# Altium schematic symbol library ZN28120BA1.SchLib: 1 symbol
Pins are listed as number, name and electrical type; pins without a type are passive.

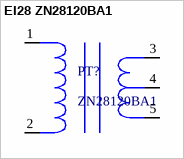
[diagram p0: symbol EI28 ZN28120BA1]

## EI28 ZN28120BA1
designator PT?, comment ZN28120BA1
220VAC / 12VAC EI28 ZN28120BA1
footprint ZN28120BA1
pins: 1, 2, 3, 4, 5